# Altium footprint library Hackster.PcbLib: 8 footprints
Each footprint in its own frame and in the unit in brackets; x right, y up, seen from the top. Pads: shape width x height; smd on the part's side, far side on the other; paste and mask are expansions set on the pad; w line width, h text height; cw(c..) or ccw(c..) is an arc to the next point about the centre after c.
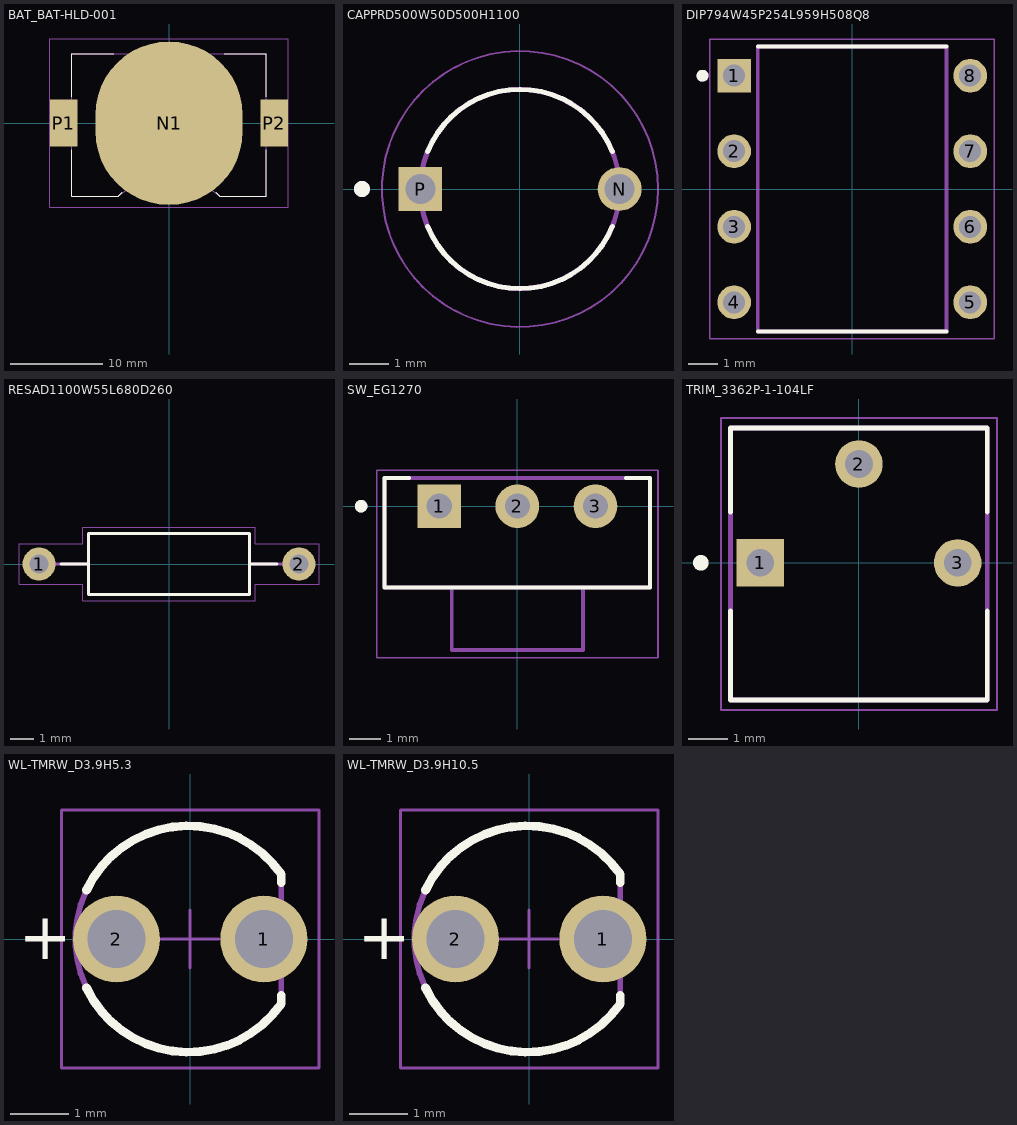
[diagram p0: the footprints below, top view; thin cyan lines are the x and y axes]

## BAT_BAT-HLD-001 [mm]
height 3.16
pads (3):
  oval 16x17.8 smd paste-10: N1(0,0)
  rect 3x5.1 smd: P1(-11.45,0) P2(11.45,0)
Top Overlay:
  lines w0.127: -10.55,-2.87 -10.55,-7.95 -5.537,-7.95 -5.08,-7.493 ; -10.55,2.87 -10.55,7.55 -6,7.55 ; 5.08,-7.493 5.537,-7.95 10.55,-7.95 10.55,-2.87 ; 6,7.55 10.55,7.55 10.55,2.87
Mechanical 13:
  lines w0.127: -5.5,-7.95 -10.55,-7.95 -10.55,7.55 10.55,7.55 10.55,-7.95 5.5,-7.95 ; -5.495,-7.946 cw(c0,-14.731) 0,-6 cw(c0,-14.731) 5.495,-7.946
Mechanical 15:
  lines w0.05: -12.95,-9.15 -12.95,9.15 12.95,9.15 12.95,-9.15 -12.95,-9.15
3D body "BAT-HLD-001--3DModel-STEP-56544.STEP": height 4.32, standoff 0, extent -11.43,-7.747 11.43,7.747

## CAPPRD500W50D500H1100 [mm]
pads (2):
  round 1.1 hole 0.75: N(2.5,0)
  rect 1.1x1.1 / inner round 1.1 / far side rect 1.1x1.1 hole 0.75: P(-2.5,0)
Top Overlay:
  circle w0.2: c-3.963,0 r0.1
  lines w0.127: -2.318,-0.937 ccw(c0,0) 2.318,-0.937 ; -2.318,0.937 cw(c0,0) 2.318,0.937
Mechanical 13:
  circle w0.127: c0,0 r2.5
  circle w0.2: c-3.963,0 r0.1
Mechanical 15:
  circle w0.05: c0,0 r3.463
3D body "step_temp.STEP": height 12.5, standoff -15.5, extent -2.75,-2.498 2.75,2.498

## DIP794W45P254L959H508Q8 [mm]
height 5.08
pads (8):
  rect 1.13x1.13 / inner round 1.13 / far side rect 1.13x1.13 hole 0.74: 1(-3.97,3.81)
  round 1.13 hole 0.74: 2(-3.97,1.27) 3(-3.97,-1.27) 4(-3.97,-3.81) 5(3.97,-3.81) 6(3.97,-1.27) 7(3.97,1.27) 8(3.97,3.81)
Top Overlay:
  circle w0.2: c-5.035,3.81 r0.1
  lines w0.127: -3.175,-4.795 3.175,-4.795 ; -3.175,4.795 3.175,4.795
Mechanical 13:
  circle w0.2: c-5.035,3.81 r0.1
  lines w0.127: -3.175,-4.795 -3.175,4.795 3.175,4.795 3.175,-4.795 -3.175,-4.795
Mechanical 15:
  lines w0.05: -4.785,-5.045 -4.785,5.045 4.785,5.045 4.785,-5.045 -4.785,-5.045
3D body "step_temp.STEP": height 5.08, standoff -3.18, extent -4.095,-4.795 4.095,4.795

## RESAD1100W55L680D260 [mm] "Chip Resistor, Body 3.2x1.6mm, IPC High Density"
height 2.6
pads (2):
  round 1.4 hole 0.8: 1(-5.5,0) 2(5.5,0)
Top Overlay:
  lines w0.127: -4.58,0 -3.4,0 ; 4.58,0 3.4,0 ; -3.4,0 -3.4,1.3 3.4,1.3 3.4,0 ; -3.4,0 -3.4,-1.3 3.4,-1.3 3.4,0
Mechanical 13:
  lines w0.127: -4.9,0 -3.4,0 ; 4.9,0 3.4,0 ; -3.4,0 -3.4,1.3 3.4,1.3 3.4,0 ; -3.4,0 -3.4,-1.3 3.4,-1.3 3.4,0
Mechanical 15:
  lines w0.05: -6.35,-0.85 -3.65,-0.85 -3.65,-1.55 3.65,-1.55 3.65,-0.85 6.35,-0.85 6.35,0.85 3.65,0.85 3.65,1.55 -3.65,1.55 -3.65,0.85 -6.35,0.85 -6.35,-0.85
3D body "step_temp.STEP": height 2.6, standoff -25.52, extent -5.775,-1.291 5.775,1.291

## SW_EG1270 [mm]
height 4
pads (3):
  rect 1.4x1.4 hole 0.8: 1(-2.5,0)
  round 1.4 hole 0.8: 2(0,0) 3(2.5,0)
Top Overlay:
  circle w0.2: c-5,0 r0.1
  lines w0.127: -3.474,0.9 -4.25,0.9 -4.25,-2.6 4.25,-2.6 4.25,0.9 3.474,0.9
Mechanical 13:
  circle w0.2: c-5,0 r0.1
  lines w0.127: -2.1,-2.6 -2.1,-4.6 2.1,-4.6 2.1,-2.6 ; -2.1,-2.6 -4.25,-2.6 -4.25,0.9 4.25,0.9 4.25,-2.6 2.1,-2.6 ; -2.1,-2.6 2.1,-2.6
Mechanical 15:
  lines w0.05: -4.5,-4.85 4.5,-4.85 4.5,1.15 -4.5,1.15 -4.5,-4.85
3D body "step_temp.STEP": height 5.1, standoff -1.7, extent -4.25,-4.6 4.25,0.9

## TRIM_3362P-1-104LF [mm]
pads (3):
  rect 1.222x1.222 / inner round 1.222 / far side rect 1.222x1.222 hole 0.714: 1(-2.54,0)
  round 1.222 hole 0.714: 2(0,2.54) 3(2.54,0)
Top Overlay:
  circle w0.2: c-4.064,0 r0.1
  lines w0.127: -3.3,-3.53 3.3,-3.53 ; -3.3,-3.52 -3.3,-1.235 ; -3.3,1.305 -3.3,3.47 3.3,3.47 3.3,1.305 ; 3.3,-3.52 3.3,-1.235
Mechanical 13:
  lines w0.127: -3.3,-3.53 -3.3,3.47 3.3,3.47 3.3,-3.53 -3.3,-3.53
Mechanical 15:
  lines w0.05: -3.55,-3.78 -3.55,3.72 3.55,3.72 3.55,-3.78 -3.55,-3.78
3D body "step_temp.STEP": height 4.88, standoff -5.84, extent -3.3,-3.495 3.3,3.495

## WL-TMRW_D3.9H5.3 [mm] "THT Mono-color Round LED, 2-leads"
height 5.3
pads (2):
  round 1.5 hole 1: 1(1.27,0) 2(-1.27,0)
Top Overlay:
  lines w0.15: -1.788,-0.844 ccw(c-0.03,0) 1.571,-1.114 1.571,-0.971 ; -1.788,0.844 cw(c-0.03,0) 1.571,1.114 1.571,0.971
  text "+" at -2.95,-0.35 h0.8
Top Courtyard:
  lines w0.05: -0.5,0 0.5,0 ; 0,-0.5 0,0.5 ; -2.22,-2.22 2.22,-2.22 2.22,2.22 -2.22,2.22 -2.22,-2.22
Top Designator:
  text ".Designator" at -4.998,-0.333 h1
Top Component Outline:
  lines w0.1: 1.57,-1.113 1.57,1.113 ; 1.571,-1.113 cw(c-0.03,0) 1.571,1.114
3D body "151034xxx.stp": height 5.3, standoff -26.4, extent -1.966,-1.95 1.604,1.949

## WL-TMRW_D3.9H10.5 [mm] "THT Mono-color Round LED, 2-leads"
height 10.5
pads (2):
  round 1.5 hole 1: 1(1.27,0) 2(-1.27,0)
Top Overlay:
  lines w0.15: -1.788,-0.844 ccw(c-0.03,0) 1.571,-1.114 1.571,-0.971 ; -1.788,0.844 cw(c-0.03,0) 1.571,1.114 1.571,0.971
  text "+" at -2.95,-0.35 h0.8
Top Courtyard:
  lines w0.05: -0.5,0 0.5,0 ; 0,-0.5 0,0.5 ; -2.22,-2.22 2.22,-2.22 2.22,2.22 -2.22,2.22 -2.22,-2.22
Top Designator:
  text ".Designator" at -4.998,-0.333 h1
Top Component Outline:
  lines w0.1: 1.57,-1.113 1.57,1.113 ; 1.571,-1.113 cw(c-0.03,0) 1.571,1.114
3D body "151033xxx.stp": height 10.55, standoff -21.15, extent -1.966,-1.95 1.854,1.949